# Altium schematic symbol library 1571527-1.SchLib: 1 symbol
Pins are listed as number, name and electrical type; pins without a type are passive.

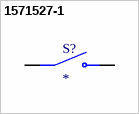
[diagram p0: symbol 1571527-1]

## 1571527-1
designator S?
Switch Tactile OFF (ON) Round Button Gull Wing 0.05A 12VDC 0.98N SMD Bulk; MF: TE Connectivity; MP: 1571527-1; SnapEDA_Link: https://www.snapeda.com/parts/1571527-1/TE+Connectivity/view-part/?ref=snap; Package: None; Value: *; EU_RoHS_Compliance: Compliant; Check_prices: https://www.snapeda.com/parts/1571527-1/TE+Connectivity/view-part/?ref=eda
footprint SW_1571527-1
pins: 1 COM, 2 COM, 3 NO, 4 NO